# Altium footprint library Inductors SMD.PcbLib: 67 footprints (part 2 of 5)
Each footprint in its own frame and in the unit in brackets; x right, y up, seen from the top. Pads: shape width x height; smd on the part's side, far side on the other; paste and mask are expansions set on the pad; w line width, h text height; cw(c..) or ccw(c..) is an arc to the next point about the centre after c.
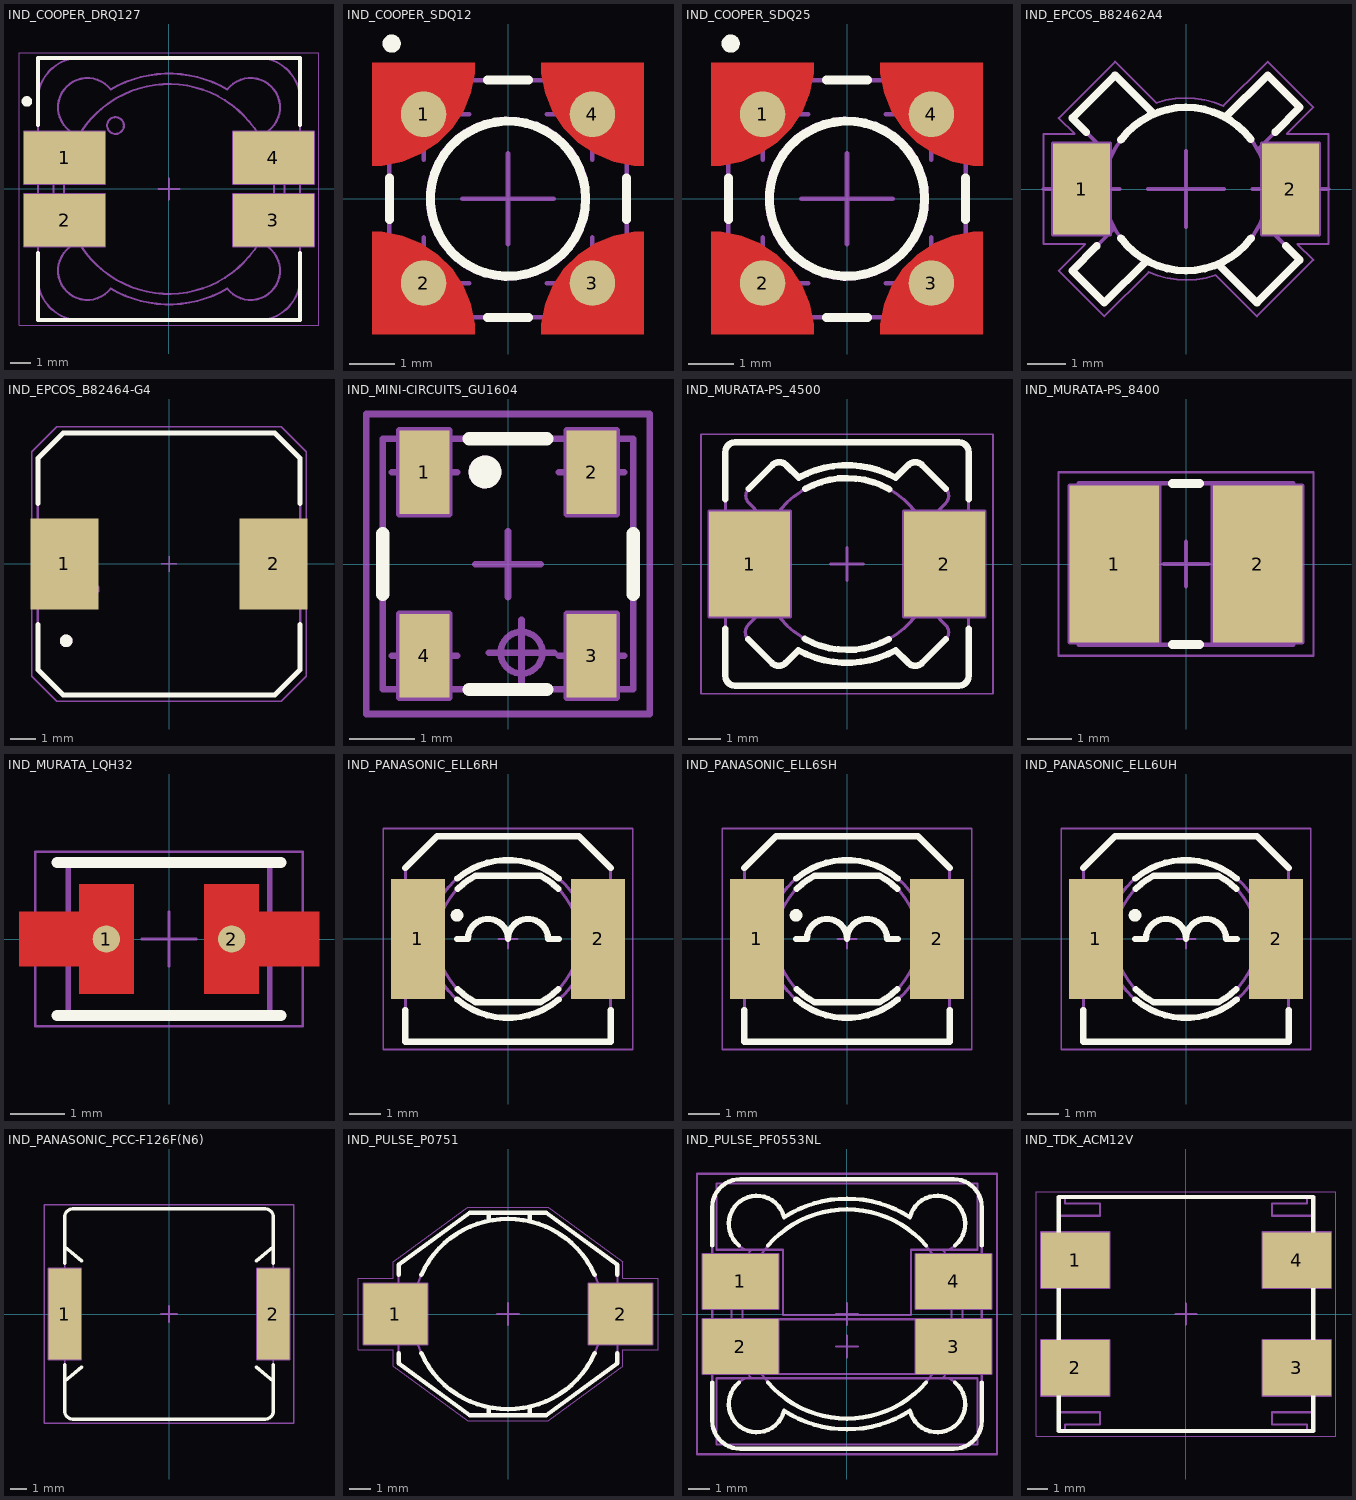
[diagram p1: the footprints below, top view; thin cyan lines are the x and y axes]

## IND_COOPER_DRQ127 [mm] "Dual Winding Shielded Inductor/Transformer DRQ Serie"
height 8
pads (4):
  rect 3.85x2.5 smd: 1(-4.975,1.5) 2(-4.975,-1.5) 3(4.975,-1.5) 4(4.975,1.5)
Top Overlay:
  circle w0.25: c-6.775,4.175 r0.125
  lines w0.2: -6.25,-3.05 -6.25,-6.25 6.25,-6.25 6.25,-3.05 ; -6.25,3.05 -6.25,6.25 6.25,6.25 6.25,3.05
Mechanical 8:
  lines w0.1: -5.475,-1.5 -4.975,-1.5 ; -5.475,1.5 -4.975,1.5 ; -4.975,-2 -4.975,-1.5 ; -4.975,-1 -4.975,-1.5 ; -4.975,1 -4.975,1.5 ; -4.975,2 -4.975,1.5 ; -4.475,-1.5 -4.975,-1.5 ; -4.475,1.5 -4.975,1.5 ; -0.5,0 0,0 ; 0,-0.5 0,0 ; 0,0.5 0,0 ; 0.5,0 0,0 ; 4.475,1.5 4.975,1.5 ; 4.975,1 4.975,1.5 ; 4.975,2 4.975,1.5 ; 5.475,1.5 4.975,1.5 ; -6.9,-2.75 -6.9,-0.25 -3.05,-0.25 -3.05,-2.75 -6.9,-2.75 ; -6.9,0.25 -6.9,2.75 -3.05,2.75 -3.05,0.25 -6.9,0.25 ; 3.05,-2.75 3.05,-0.25 6.9,-0.25 6.9,-2.75 3.05,-2.75 ; 3.05,0.25 3.05,2.75 6.9,2.75 6.9,0.25 3.05,0.25
Mechanical 14:
  circle w0.1: c-2.55,3.025 r0.4
  circle w0.1: c0,0 r5
  lines w0.1: -4.25,6.25 ccw(c-4.25,4.25) -6.25,4.25 -6.25,-4.25 ccw(c-4.25,-4.25) -4.25,-6.25 4.25,-6.25 ccw(c4.25,-4.25) 6.25,-4.25 6.25,4.25 ccw(c4.25,4.25) 4.25,6.25 ; -4.25,6.25 4.25,6.25 ; -4.25,6.25 4.25,6.25 ; -4.745,-2.781 cw(c0,0) -4.745,2.781 cw(c-3.889,3.889) -2.781,4.745 cw(c0,0) 2.781,4.745 cw(c3.889,3.889) 4.745,2.781 cw(c0,0) 4.745,-2.781 cw(c3.889,-3.889) 2.781,-4.745 cw(c0,0) -2.781,-4.745 cw(c-3.889,-3.889) -4.745,-2.781
Mechanical 15:
  lines w0.05: -7.15,-6.5 -7.15,6.5 7.15,6.5 7.15,-6.5 -7.15,-6.5
3D body "IND_COOPER_DRQ127.stp": height 8, standoff 0, extent -6.25,-6.25 6.25,6.25

## IND_COOPER_SDQ12 [mm] "Low-Profile Dual Winding Shielded Inductor/Transformer SDQ Serie"
height 1.2
pads (4):
  round 1 smd: 1(-1.85,1.85) 2(-1.85,-1.85) 3(1.85,-1.85) 4(1.85,1.85)
Top Layer:
  region: -2.975,2.975 -2.975,0.725 -2.753,0.725 -2.319,0.811 -1.909,0.981 -1.541,1.227 -1.227,1.541 -0.981,1.909 -0.811,2.319 -0.725,2.753 -0.725,2.975
  region: 2.975,-2.975 2.975,-0.725 2.753,-0.725 2.319,-0.811 1.909,-0.981 1.541,-1.227 1.227,-1.541 0.981,-1.909 0.811,-2.319 0.725,-2.753 0.725,-2.975
  region: 2.975,2.975 0.725,2.975 0.725,2.753 0.811,2.319 0.981,1.909 1.227,1.541 1.541,1.227 1.909,0.981 2.319,0.811 2.753,0.725 2.975,0.725
  region: -2.975,-2.975 -0.725,-2.975 -0.725,-2.753 -0.811,-2.319 -0.981,-1.909 -1.227,-1.541 -1.541,-1.227 -1.909,-0.981 -2.319,-0.811 -2.753,-0.725 -2.975,-0.725
Top Overlay:
  circle w0.2: c-2.55,3.4 r0.1
  circle w0.2: c0,0 r1.7
  lines w0.2: -2.6,-0.453 -2.6,0.453 ; -0.453,-2.6 0.453,-2.6 ; -0.453,2.6 0.453,2.6 ; 2.6,-0.453 2.6,0.453
Top Paste:
  region: 2.975,-2.975 2.975,-0.725 2.753,-0.725 2.319,-0.811 1.909,-0.981 1.541,-1.227 1.227,-1.541 0.981,-1.909 0.811,-2.319 0.725,-2.753 0.725,-2.975
  region: -2.975,-2.975 -0.725,-2.975 -0.725,-2.753 -0.811,-2.319 -0.981,-1.909 -1.227,-1.541 -1.541,-1.227 -1.909,-0.981 -2.319,-0.811 -2.753,-0.725 -2.975,-0.725
  region: 2.975,2.975 0.725,2.975 0.725,2.753 0.811,2.319 0.981,1.909 1.227,1.541 1.541,1.227 1.909,0.981 2.319,0.811 2.753,0.725 2.975,0.725
  region: -2.975,2.975 -2.975,0.725 -2.753,0.725 -2.319,0.811 -1.909,0.981 -1.541,1.227 -1.227,1.541 -0.981,1.909 -0.811,2.319 -0.725,2.753 -0.725,2.975
Top Solder:
  region: -0.627,3.075 -0.617,2.831 -0.697,2.35 -0.874,1.895 -1.141,1.486 -1.486,1.141 -1.895,0.874 -2.35,0.697 -2.831,0.617 -3.075,0.627 -3.075,3.075
  region: -3.075,-0.627 -2.831,-0.617 -2.35,-0.697 -1.895,-0.874 -1.486,-1.141 -1.141,-1.486 -0.874,-1.895 -0.697,-2.35 -0.617,-2.831 -0.627,-3.075 -3.075,-3.075
  region: 3.075,0.627 2.831,0.617 2.35,0.697 1.895,0.874 1.486,1.141 1.141,1.486 0.874,1.895 0.697,2.35 0.617,2.831 0.627,3.075 3.075,3.075
  region: 0.627,-3.075 0.617,-2.831 0.697,-2.35 0.874,-1.895 1.141,-1.486 1.486,-1.141 1.895,-0.874 2.35,-0.697 2.831,-0.617 3.075,-0.627 3.075,-3.075
Mechanical 8:
  lines w0.1: -2.85,-1.85 -1.85,-1.85 ; -2.85,1.85 -1.85,1.85 ; -1.85,-2.85 -1.85,-1.85 ; -1.85,-0.85 -1.85,-1.85 ; -1.85,0.85 -1.85,1.85 ; -1.85,2.85 -1.85,1.85 ; -1,0 0,0 ; -0.85,-1.85 -1.85,-1.85 ; -0.85,1.85 -1.85,1.85 ; 0,-1 0,0 ; 0,1 0,0 ; 0.85,-1.85 1.85,-1.85 ; 0.85,1.85 1.85,1.85 ; 1,0 0,0 ; 1.85,-2.85 1.85,-1.85 ; 1.85,-0.85 1.85,-1.85 ; 1.85,0.85 1.85,1.85 ; 1.85,2.85 1.85,1.85 ; 2.85,-1.85 1.85,-1.85 ; 2.85,1.85 1.85,1.85
Mechanical 14:
  circle w0.1: c-2.55,3.4 r0.1
  circle w0.1: c0,0 r1.75
  lines w0.1: -2.6,-2.6 2.6,-2.6 2.6,2.6 -2.6,2.6 -2.6,-2.6
3D body "IND_COOPER_SDQ12.stp": height 1.2, standoff 0, extent -2.6,-2.6 2.6,2.6

## IND_COOPER_SDQ25 [mm] "Low-Profile Dual Winding Shielded Inductor/Transformer SDQ Serie"
height 2.5
pads (4):
  round 1 smd: 1(-1.85,1.85) 2(-1.85,-1.85) 3(1.85,-1.85) 4(1.85,1.85)
Top Layer:
  region: -2.975,-2.975 -0.725,-2.975 -0.725,-2.753 -0.811,-2.319 -0.981,-1.909 -1.227,-1.541 -1.541,-1.227 -1.909,-0.981 -2.319,-0.811 -2.753,-0.725 -2.975,-0.725
  region: 2.975,2.975 0.725,2.975 0.725,2.753 0.811,2.319 0.981,1.909 1.227,1.541 1.541,1.227 1.909,0.981 2.319,0.811 2.753,0.725 2.975,0.725
  region: 2.975,-2.975 2.975,-0.725 2.753,-0.725 2.319,-0.811 1.909,-0.981 1.541,-1.227 1.227,-1.541 0.981,-1.909 0.811,-2.319 0.725,-2.753 0.725,-2.975
  region: -2.975,2.975 -2.975,0.725 -2.753,0.725 -2.319,0.811 -1.909,0.981 -1.541,1.227 -1.227,1.541 -0.981,1.909 -0.811,2.319 -0.725,2.753 -0.725,2.975
Top Overlay:
  circle w0.2: c0,0 r1.7
  circle w0.2: c-2.55,3.4 r0.1
  lines w0.2: -2.6,-0.453 -2.6,0.453 ; -0.453,-2.6 0.453,-2.6 ; -0.453,2.6 0.453,2.6 ; 2.6,-0.453 2.6,0.453
Top Paste:
  region: -2.975,2.975 -2.975,0.725 -2.753,0.725 -2.319,0.811 -1.909,0.981 -1.541,1.227 -1.227,1.541 -0.981,1.909 -0.811,2.319 -0.725,2.753 -0.725,2.975
  region: 2.975,2.975 0.725,2.975 0.725,2.753 0.811,2.319 0.981,1.909 1.227,1.541 1.541,1.227 1.909,0.981 2.319,0.811 2.753,0.725 2.975,0.725
  region: -2.975,-2.975 -0.725,-2.975 -0.725,-2.753 -0.811,-2.319 -0.981,-1.909 -1.227,-1.541 -1.541,-1.227 -1.909,-0.981 -2.319,-0.811 -2.753,-0.725 -2.975,-0.725
  region: 2.975,-2.975 2.975,-0.725 2.753,-0.725 2.319,-0.811 1.909,-0.981 1.541,-1.227 1.227,-1.541 0.981,-1.909 0.811,-2.319 0.725,-2.753 0.725,-2.975
Top Solder:
  region: 0.627,-3.075 0.617,-2.831 0.697,-2.35 0.874,-1.895 1.141,-1.486 1.486,-1.141 1.895,-0.874 2.35,-0.697 2.831,-0.617 3.075,-0.627 3.075,-3.075
  region: 3.075,0.627 2.831,0.617 2.35,0.697 1.895,0.874 1.486,1.141 1.141,1.486 0.874,1.895 0.697,2.35 0.617,2.831 0.627,3.075 3.075,3.075
  region: -3.075,-0.627 -2.831,-0.617 -2.35,-0.697 -1.895,-0.874 -1.486,-1.141 -1.141,-1.486 -0.874,-1.895 -0.697,-2.35 -0.617,-2.831 -0.627,-3.075 -3.075,-3.075
  region: -0.627,3.075 -0.617,2.831 -0.697,2.35 -0.874,1.895 -1.141,1.486 -1.486,1.141 -1.895,0.874 -2.35,0.697 -2.831,0.617 -3.075,0.627 -3.075,3.075
Mechanical 8:
  lines w0.1: -2.85,-1.85 -1.85,-1.85 ; -2.85,1.85 -1.85,1.85 ; -1.85,-2.85 -1.85,-1.85 ; -1.85,-0.85 -1.85,-1.85 ; -1.85,0.85 -1.85,1.85 ; -1.85,2.85 -1.85,1.85 ; -1,0 0,0 ; -0.85,-1.85 -1.85,-1.85 ; -0.85,1.85 -1.85,1.85 ; 0,-1 0,0 ; 0,1 0,0 ; 0.85,-1.85 1.85,-1.85 ; 0.85,1.85 1.85,1.85 ; 1,0 0,0 ; 1.85,-2.85 1.85,-1.85 ; 1.85,-0.85 1.85,-1.85 ; 1.85,0.85 1.85,1.85 ; 1.85,2.85 1.85,1.85 ; 2.85,-1.85 1.85,-1.85 ; 2.85,1.85 1.85,1.85
Mechanical 14:
  circle w0.1: c0,0 r1.75
  circle w0.1: c-2.55,3.4 r0.1
  lines w0.1: -2.6,-2.6 -2.6,2.6 2.6,2.6 2.6,-2.6 -2.6,-2.6
3D body "IND_COOPER_SDQ25.stp": height 2.5, standoff 0, extent -2.6,-2.6 2.6,2.6

## IND_EPCOS_B82462A4 [mm] "SMD Inductor  Body Width 6mm Body Lenght 6mm Height 3mm"
height 3
pads (2):
  rect 1.5x2.4 smd: 1(-2.75,0) 2(2.75,0)
Top Overlay:
  lines w0.2: -2.628,1.497 -3,1.869 -1.869,3 -0.845,1.977 ; -2.349,-1.501 -3,-2.151 -2.151,-3 -1.036,-1.884 ; -1.717,-1.294 ccw(c0,0) 1.717,-1.294 ; -1.717,1.294 cw(c0,0) 1.708,1.306 ; 0.845,-1.977 1.869,-3 3,-1.869 2.628,-1.497 ; 1.036,1.884 2.151,3 3,2.151 2.349,1.501
Mechanical 8:
  lines w0.1: -3.75,0 -2.75,0 ; -2.75,-1 -2.75,0 ; -2.75,1 -2.75,0 ; -1.75,0 -2.75,0 ; -1,0 0,0 ; 0,-1 0,0 ; 0,1 0,0 ; 1,0 0,0 ; 1.75,0 2.75,0 ; 2.75,-1 2.75,0 ; 2.75,1 2.75,0 ; 3.75,0 2.75,0 ; -3.5,-1.2 -2,-1.2 -2,1.2 -3.5,1.2 -3.5,-1.2 ; 2,-1.2 3.5,-1.2 3.5,1.2 2,1.2 2,-1.2
Mechanical 14:
  circle w0.1: c0,0 r2.15
  lines w0.1: -1.036,-1.884 -2.151,-3 -3,-2.151 -1.884,-1.036 -1.903,-1 -3,-1 -3,1 -2.131,1 -3,1.869 -1.869,3 -0.845,1.977 ; 0.845,-1.977 1.869,-3 3,-1.869 2.131,-1 3,-1 3,1 1.903,1 1.884,1.036 3,2.151 2.151,3 1.036,1.884
Mechanical 15:
  lines w0.05: -3.75,-1.45 -3.75,1.45 -2.935,1.45 -3.354,1.869 -1.869,3.354 -0.784,2.268 cw(c0,0) 0.986,2.188 2.151,3.354 3.354,2.151 2.652,1.45 3.75,1.45 3.75,-1.45 2.935,-1.45 3.354,-1.869 1.869,-3.354 0.784,-2.268 cw(c0,0) -0.986,-2.188 -2.151,-3.354 -3.354,-2.151 -2.652,-1.45 -3.75,-1.45
3D body "IND_EPCOS_B82462A4.stp": height 3, standoff 0, extent -3,-3 3,3

## IND_EPCOS_B82464-G4 [mm] "SMD Inductor  Body Width 10.4mm Body Lenght 10.4mm Height 4.8mm"
height 4.8
pads (2):
  rect 2.7x3.6 smd: 1(-4.15,0) 2(4.15,0)
Top Overlay:
  circle w0.25: c-4.075,-3.05 r0.125
  lines w0.2: -5.2,-2.4 -5.2,-4.2 -4.2,-5.2 4.2,-5.2 5.2,-4.2 5.2,-2.4 ; -5.2,2.4 -5.2,4.2 -4.2,5.2 4.2,5.2 5.2,4.2 5.2,2.4
Mechanical 14:
  circle w0.25: c-4.075,-3.05 r0.125
  circle w0.25: c-3,-1 r0.125
  lines w0.1: -5.2,-4.2 -4.2,-5.2 4.2,-5.2 5.2,-4.2 5.2,4.2 4.2,5.2 -4.2,5.2 -5.2,4.2 -5.2,-4.2
Mechanical 15:
  lines w0.05: -0.3,0 0.3,0 ; 0,-0.3 0,0.3 ; -5.45,-4.45 -4.45,-5.45 4.45,-5.45 5.45,-4.45 5.45,4.45 4.45,5.45 -4.45,5.45 -5.45,4.45 -5.45,-4.45
3D body "IND_EPCOS_B82464-G4.stp": height 4.9, standoff 0, extent -5.201,-5.201 5.199,5.199

## IND_MINI-CIRCUITS_GU1604 [mm] "MINI-CIRCUITS RF Choke, Case GU1041 - Body 3.81X3.81mm"
height 3.81
pads (4):
  rect 0.76x1.27 smd: 1(-1.27,1.394) 2(1.27,1.396) 3(1.27,-1.394) 4(-1.27,-1.396)
Top Overlay:
  circle w0.25: c-0.35,1.4 r0.125
  lines w0.2: -1.905,-0.459 -1.905,0.461 ; -0.59,-1.905 0.59,-1.905 ; -0.59,1.905 0.59,1.905 ; 1.905,-0.459 1.905,0.461
Mechanical 8:
  circle w0.1: c0.205,-1.347 r0.318
  lines w0.1: -1.77,-1.396 -1.27,-1.396 ; -1.77,1.394 -1.27,1.394 ; -1.27,-1.896 -1.27,-1.396 ; -1.27,-0.896 -1.27,-1.396 ; -1.27,0.894 -1.27,1.394 ; -1.27,1.894 -1.27,1.394 ; -0.77,-1.396 -1.27,-1.396 ; -0.77,1.394 -1.27,1.394 ; -0.295,-1.347 0.205,-1.347 ; 0.205,-1.847 0.205,-1.347 ; 0.205,-0.847 0.205,-1.347 ; 0.705,-1.347 0.205,-1.347 ; 0.77,-1.394 1.27,-1.394 ; 0.77,1.396 1.27,1.396 ; 1.27,-1.894 1.27,-1.394 ; 1.27,-0.894 1.27,-1.394 ; 1.27,0.896 1.27,1.396 ; 1.27,1.896 1.27,1.396 ; 1.77,-1.394 1.27,-1.394 ; 1.77,1.396 1.27,1.396 ; 0,0 0,0.5 0,0 ; 0,0 0.5,0 0,0 ; 0,0 0,-0.5 0,0 ; 0,0 -0.5,0 0,0 ; -1.65,-2.029 -1.65,-0.759 -0.89,-0.759 -0.89,-2.029 -1.65,-2.029 ; -1.65,0.761 -1.65,2.031 -0.89,2.031 -0.89,0.761 -1.65,0.761 ; 0.89,-2.029 0.89,-0.759 1.65,-0.759 1.65,-2.029 0.89,-2.029 ; 0.89,0.761 0.89,2.031 1.65,2.031 1.65,0.761 0.89,0.761
Mechanical 14:
  circle w0.1: c-0.35,1.4 r0.2
  lines w0.1: -1.905,-1.905 -1.905,1.905 1.905,1.905 1.905,-1.905 -1.905,-1.905
Mechanical 15:
  lines w0.1: -2.155,-2.279 -2.155,2.281 2.155,2.281 2.155,-2.279 -2.155,-2.279
3D body "IND_MINI-CIRCUITS_GU1604.stp": height 3.81, standoff 0, extent -1.905,-1.905 1.905,1.905

## IND_MURATA-PS_4500 [mm] "Shielded Surface Mount Power Inductors, 7.3mm L X 7.3mm W X 3.55mm H, MURATA 4500 Serie"
height 3.55
pads (2):
  rect 2.5x3.25 smd: 1(-3,0) 2(3,0)
Top Overlay:
  lines w0.2: -3.75,-2 -3.75,-3.45 ccw(c-3.45,-3.45) -3.45,-3.75 3.45,-3.75 ccw(c3.45,-3.45) 3.75,-3.45 3.75,-2 ; -3.75,2 -3.75,3.45 cw(c-3.45,3.45) -3.45,3.75 3.45,3.75 cw(c3.45,3.45) 3.75,3.45 3.75,2 ; -3.045,-2.323 -2.323,-3.045 ccw(c-2.103,-2.826) -1.883,-3.045 -1.496,-2.658 ccw(c0,0) 1.496,-2.658 1.879,-3.04 ccw(c2.104,-2.825) 2.323,-3.045 3.045,-2.323 ; -3.029,2.323 -2.307,3.045 cw(c-2.087,2.826) -1.863,3.041 -1.486,2.664 cw(c0,0) 1.496,2.658 1.883,3.045 cw(c2.103,2.826) 2.323,3.045 3.045,2.323 ; -1.3,-2.309 ccw(c0,0) 1.291,-2.314 ; -1.291,2.314 cw(c0,0) 1.3,2.309
Top Solder:
  region: 2.85,0.6 1.7,0.6 1.7,-0.6 2.85,-0.6
  rectangle: -2.85,-0.6 -1.7,0.6
Mechanical 8:
  lines w0.1: -3.5,0 -3,0 ; -3,-0.5 -3,0 ; -3,0.5 -3,0 ; -2.5,0 -3,0 ; -0.5,0 0,0 ; 0,-0.5 0,0 ; 0,0.5 0,0 ; 0.5,0 0,0 ; 2.5,0 3,0 ; 3,-0.5 3,0 ; 3,0.5 3,0 ; 3.5,0 3,0 ; -4.25,-1.625 -1.75,-1.625 -1.75,1.625 -4.25,1.625 -4.25,-1.625 ; 1.75,-1.625 1.75,1.625 4.25,1.625 4.25,-1.625 1.75,-1.625
Mechanical 14:
  circle w0.1: c0,0 r2.65
  lines w0.1: -1.5,3.75 1.5,3.75 ; -3.75,-3.45 ccw(c-3.45,-3.45) -3.45,-3.75 3.45,-3.75 ccw(c3.45,-3.45) 3.75,-3.45 3.75,3.45 ccw(c3.45,3.45) 3.45,3.75 -3.45,3.75 ccw(c-3.45,3.45) -3.75,3.45 -3.75,-3.45 ; -3.045,-2.323 cw(c-2.825,-2.104) -3.04,-1.879 -2.658,-1.496 cw(c0,0) -2.652,1.506 -3.029,1.884 cw(c-2.809,2.103) -3.029,2.323 -2.307,3.045 cw(c-2.087,2.826) -1.863,3.041 -1.486,2.664 cw(c0,0) 1.496,2.658 1.883,3.045 cw(c2.103,2.826) 2.323,3.045 3.045,2.323 cw(c2.825,2.104) 3.04,1.879 2.658,1.496 cw(c0,0) 2.658,-1.496 3.045,-1.883 cw(c2.826,-2.103) 3.045,-2.323 2.323,-3.045 cw(c2.104,-2.825) 1.879,-3.04 1.496,-2.658 cw(c0,0) -1.496,-2.658 -1.883,-3.045 cw(c-2.103,-2.826) -2.323,-3.045 -3.045,-2.323
Mechanical 15:
  lines w0.05: -4.5,-4 4.5,-4 4.5,4 -4.5,4 -4.5,-4
3D body "IND_MURATA-PS_4500.stp": height 3.55, standoff 0, extent -3.75,-3.75 3.75,3.75

## IND_MURATA-PS_8400 [mm] "Miniature Surface Mount Power Inductors, 4.5mm L X 3.3mm W X 2.9mm H, MURATA 8400 Serie"
height 2.9
pads (2):
  rect 2x3.5 smd: 1(-1.6,0) 2(1.6,0)
Top Overlay:
  lines w0.2: -0.3,-1.8 0.3,-1.8 ; -0.3,1.8 0.3,1.8
Mechanical 8:
  lines w0.1: -2.1,0 -1.6,0 ; -1.6,-0.5 -1.6,0 ; -1.6,0.5 -1.6,0 ; -1.1,0 -1.6,0 ; -0.5,0 0,0 ; 0,-0.5 0,0 ; 0,0.5 0,0 ; 0.5,0 0,0 ; 1.1,0 1.6,0 ; 1.6,-0.5 1.6,0 ; 1.6,0.5 1.6,0 ; 2.1,0 1.6,0 ; -2.6,-1.75 -2.6,1.75 -0.6,1.75 -0.6,-1.75 -2.6,-1.75 ; 0.6,-1.75 0.6,1.75 2.6,1.75 2.6,-1.75 0.6,-1.75
Mechanical 14:
  lines w0.1: -1.8,-1.8 -1.8,1.8 ; 1.8,-1.8 1.8,1.8 ; -2.4,-1.8 2.4,-1.8 2.4,1.8 -2.4,1.8 -2.4,-1.8
Mechanical 15:
  lines w0.05: -2.85,-2.05 -2.85,2.05 2.85,2.05 2.85,-2.05 -2.85,-2.05
3D body "IND_MURATA-PS_8400.stp": height 2.9, standoff 0, extent -2.4,-1.8 2.4,1.8

## IND_MURATA_LQH32 [mm] "Chip Inductor, 3.40mm L X 2.50mm W X 2.20mm H, MURATA LQH32 Serie"
height 2.2
pads (2):
  round 0.5 smd paste-0.26 mask-0.26: 1(-1.15,0) 2(1.15,0)
Top Layer:
  region: -2.75,-0.5 -1.65,-0.5 -1.65,-1 -0.65,-1 -0.65,1 -1.65,1 -1.65,0.5 -2.75,0.5
  region: 2.75,0.5 1.65,0.5 1.65,1 0.65,1 0.65,-1 1.65,-1 1.65,-0.5 2.75,-0.5
Top Overlay:
  lines w0.2: -2.05,-1.4 2.05,-1.4 ; -2.05,1.4 2.05,1.4
Mechanical 14:
  lines w0.1: -1.85,-1.35 1.85,-1.35 1.85,1.35 -1.85,1.35 -1.85,-1.35
Mechanical 15:
  lines w0.05: -0.5,0 0.5,0 ; 0,-0.5 0,0.5 ; -2.45,-1.6 2.45,-1.6 2.45,1.6 -2.45,1.6 -2.45,-1.6
3D body "IND_MURATA_LQH32.stp": height 2.2, standoff 0, extent -1.75,-1.25 1.75,1.25

## IND_PANASONIC_ELL6RH [mm] "SMD Choke Coil, Body 6.9x6.5mm"
height 2.8
pads (2):
  rect 1.7x3.8 smd: 1(-2.85,0) 2(2.85,0)
Top Overlay:
  circle w0.2: c-1.615,0.75 r0.1
  lines w0.2: -3.25,-2.25 -3.25,-3.25 3.25,-3.25 3.25,-2.25 ; -3.25,2.25 -2.25,3.25 2.25,3.25 3.25,2.25 ; -1.615,0 -1.27,0 cw(c-0.635,0) 0,0 cw(c0.635,0) 1.27,0 1.615,0 ; -1.607,-1.915 ccw(c0,0) 1.607,-1.915 ; -1.607,1.915 cw(c0,0) 1.607,1.915 ; -1.591,-1.591 ccw(c0,0) -1.031,-2 1.031,-2 ccw(c0,0) 1.591,-1.591 ; -1.591,1.591 cw(c0,0) -1.031,2 1.031,2 cw(c0,0) 1.591,1.591
Mechanical 14:
  circle w0.1: c0,0 r2.5
  lines w0.1: -3.25,-1.65 -3.45,-1.65 -3.45,1.65 -3.25,1.65 ; 3.25,-1.65 3.45,-1.65 3.45,1.65 3.25,1.65 ; -3.25,-3.25 -3.25,2.25 -2.25,3.25 2.25,3.25 3.25,2.25 3.25,-3.25 -3.25,-3.25 ; -1.031,-2 cw(c0,0) -1.031,2 1.031,2 cw(c0,0) 1.031,-2 -1.031,-2
Mechanical 15:
  lines w0.05: -0.3,0 0.3,0 ; 0,-0.3 0,0.3 ; -3.95,-3.5 -3.95,3.5 3.95,3.5 3.95,-3.5 -3.95,-3.5
3D body "IND_PANASONIC_ELL6RH.stp": height 2.8, standoff 0, extent -3.45,-3.25 3.45,3.25

## IND_PANASONIC_ELL6SH [mm] "SMD Choke Coil, Body 6.9x6.5mm"
height 3.3
pads (2):
  rect 1.7x3.8 smd: 1(-2.85,0) 2(2.85,0)
Top Overlay:
  circle w0.2: c-1.615,0.75 r0.1
  lines w0.2: -3.25,-2.25 -3.25,-3.25 3.25,-3.25 3.25,-2.25 ; -3.25,2.25 -2.25,3.25 2.25,3.25 3.25,2.25 ; -1.615,0 -1.27,0 cw(c-0.635,0) 0,0 cw(c0.635,0) 1.27,0 1.615,0 ; -1.607,-1.915 ccw(c0,0) 1.607,-1.915 ; -1.607,1.915 cw(c0,0) 1.607,1.915 ; -1.591,-1.591 ccw(c0,0) -1.031,-2 1.031,-2 ccw(c0,0) 1.591,-1.591 ; -1.591,1.591 cw(c0,0) -1.031,2 1.031,2 cw(c0,0) 1.591,1.591
Mechanical 14:
  circle w0.1: c0,0 r2.5
  lines w0.1: -3.25,-1.65 -3.45,-1.65 -3.45,1.65 -3.25,1.65 ; 3.25,-1.65 3.45,-1.65 3.45,1.65 3.25,1.65 ; -3.25,-3.25 -3.25,2.25 -2.25,3.25 2.25,3.25 3.25,2.25 3.25,-3.25 -3.25,-3.25 ; -1.031,-2 cw(c0,0) -1.031,2 1.031,2 cw(c0,0) 1.031,-2 -1.031,-2
Mechanical 15:
  lines w0.05: -0.3,0 0.3,0 ; 0,-0.3 0,0.3 ; -3.95,-3.5 -3.95,3.5 3.95,3.5 3.95,-3.5 -3.95,-3.5
3D body "IND_PANASONIC_ELL6SH.stp": height 3.3, standoff 0, extent -3.45,-3.25 3.45,3.25

## IND_PANASONIC_ELL6UH [mm] "SMD Choke Coil, Body 6.9x6.5mm"
height 5
pads (2):
  rect 1.7x3.8 smd: 1(-2.85,0) 2(2.85,0)
Top Overlay:
  circle w0.2: c-1.615,0.75 r0.1
  lines w0.2: -3.25,-2.25 -3.25,-3.25 3.25,-3.25 3.25,-2.25 ; -3.25,2.25 -2.25,3.25 2.25,3.25 3.25,2.25 ; -1.615,0 -1.27,0 cw(c-0.635,0) 0,0 cw(c0.635,0) 1.27,0 1.615,0 ; -1.607,-1.915 ccw(c0,0) 1.607,-1.915 ; -1.607,1.915 cw(c0,0) 1.607,1.915 ; -1.591,-1.591 ccw(c0,0) -1.031,-2 1.031,-2 ccw(c0,0) 1.591,-1.591 ; -1.591,1.591 cw(c0,0) -1.031,2 1.031,2 cw(c0,0) 1.591,1.591
Mechanical 14:
  circle w0.1: c0,0 r2.5
  lines w0.1: -3.25,-1.65 -3.45,-1.65 -3.45,1.65 -3.25,1.65 ; 3.25,-1.65 3.45,-1.65 3.45,1.65 3.25,1.65 ; -3.25,-3.25 3.25,-3.25 3.25,2.25 2.25,3.25 -2.25,3.25 -3.25,2.25 -3.25,-3.25 ; -1.031,-2 cw(c0,0) -1.031,2 1.031,2 cw(c0,0) 1.031,-2 -1.031,-2
Mechanical 15:
  lines w0.05: -0.3,0 0.3,0 ; 0,-0.3 0,0.3 ; -3.95,-3.5 3.95,-3.5 3.95,3.5 -3.95,3.5 -3.95,-3.5
3D body "IND_PANASONIC_ELL6UH.stp": height 5, standoff 0, extent -3.45,-3.25 3.45,3.25

## IND_PANASONIC_PCC-F126F(N6) [mm] "SMD Inductor  Body Width 12.5mm Body Lenght 12.5mm Height 5.7mm, PANASONIC PCC-F126(N6) Serie"
height 5.7
pads (2):
  rect 2x5.6 smd: 1(-6.4,0) 2(6.4,0)
Top Overlay:
  lines w0.2: -6.4,-4.125 -5.35,-3.25 ; -6.4,-3.1 -6.4,-5.95 ccw(c-5.9,-5.95) -5.9,-6.45 5.9,-6.45 ccw(c5.9,-5.95) 6.4,-5.95 6.4,-3.1 ; -6.4,3.1 -6.4,5.95 cw(c-5.9,5.95) -5.9,6.45 5.9,6.45 cw(c5.9,5.95) 6.4,5.95 6.4,3.1 ; -6.4,4.125 -5.35,3.25 ; 5.35,-3.25 6.4,-4.125 ; 5.35,3.25 6.4,4.125
Mechanical 8:
  lines w0.1: -6.9,0 -6.4,0 ; -6.4,-0.5 -6.4,0 ; -6.4,0.5 -6.4,0 ; -5.9,0 -6.4,0 ; -0.5,0 0,0 ; 0,-0.5 0,0 ; 0,0.5 0,0 ; 0.5,0 0,0 ; 5.9,0 6.4,0 ; 6.4,-0.5 6.4,0 ; 6.4,0.5 6.4,0 ; 6.9,0 6.4,0 ; -7.4,-2.8 -5.4,-2.8 -5.4,2.8 -7.4,2.8 -7.4,-2.8 ; 5.4,-2.8 7.4,-2.8 7.4,2.8 5.4,2.8 5.4,-2.8
Mechanical 14:
  lines w0.1: -6.4,-5.95 ccw(c-5.9,-5.95) -5.9,-6.45 5.9,-6.45 ccw(c5.9,-5.95) 6.4,-5.95 6.4,5.95 ccw(c5.9,5.95) 5.9,6.45 -5.9,6.45 ccw(c-5.9,5.95) -6.4,5.95 -6.4,-5.95
Mechanical 15:
  lines w0.1: -7.65,-6.7 -7.65,6.7 7.65,6.7 7.65,-6.7 -7.65,-6.7
3D body "IND_PANASONIC_PCC-F126F(N6).stp": height 5.7, standoff -0.3, extent -6.25,-6.25 6.25,6.25

## IND_PULSE_P0751 [mm] "SMD Power Inductor, Body Width 9.4mm Body Lenght 12.95mm Height 5.46mm, PULSE P0751/52NL Serie"
height 5.46
pads (2):
  rect 2.92x2.79 smd: 1(-5.145,0) 2(5.145,0)
Top Overlay:
  lines w0.2: -5,-1.795 -5,-2.25 -1.75,-4.625 1.75,-4.625 5,-2.25 5,-1.795 ; -5,1.795 -5,2.25 -1.75,4.625 1.75,4.625 5,2.25 5,1.795 ; -3.962,-1.795 ccw(c0,0) 3.962,-1.795 ; -3.962,1.795 cw(c0,0) 3.962,1.795 ; -0.886,-4.625 -0.886,-4.259 ; -0.886,4.259 -0.886,4.625 ; 0.999,-4.625 0.999,-4.234 ; 0.999,4.234 0.999,4.625
Mechanical 8:
  lines w0.1: -5.645,0 -5.145,0 ; -5.145,-0.5 -5.145,0 ; -5.145,0.5 -5.145,0 ; -4.645,0 -5.145,0 ; -0.5,0 0,0 ; 0,-0.5 0,0 ; 0,0.5 0,0 ; 0.5,0 0,0 ; 4.645,0 5.145,0 ; 5.145,-0.5 5.145,0 ; 5.145,0.5 5.145,0 ; 5.645,0 5.145,0 ; -6.605,-1.395 -3.685,-1.395 -3.685,1.395 -6.605,1.395 -6.605,-1.395 ; 3.685,-1.395 6.605,-1.395 6.605,1.395 3.685,1.395 3.685,-1.395
Mechanical 14:
  circle w0.1: c0,0 r4.35
  lines w0.1: -0.886,-4.625 -0.886,-4.259 ; -0.886,4.259 -0.886,4.625 ; 0.999,-4.625 0.999,-4.234 ; 0.999,4.234 0.999,4.625 ; -6.3,-1.25 -6.3,1.25 -5,1.25 -5,2.25 -1.75,4.625 1.75,4.625 5,2.25 5,1.25 6.3,1.25 6.3,-1.25 5,-1.25 5,-2.25 1.75,-4.625 -1.75,-4.625 -5,-2.25 -5,-1.25 -6.3,-1.25
Mechanical 15:
  lines w0.05: -6.855,-1.645 -5.25,-1.645 -5.25,-2.377 -1.832,-4.875 1.832,-4.875 5.25,-2.377 5.25,-1.645 6.855,-1.645 6.855,1.645 5.25,1.645 5.25,2.377 1.832,4.875 -1.832,4.875 -5.25,2.377 -5.25,1.645 -6.855,1.645 -6.855,-1.645
3D body "IND_PULSE_P0751.stp": height 4.75, standoff 0, extent -6.3,-4.625 6.3,4.625

## IND_PULSE_PF0553NL [mm] "SMD Power Inductor, Body Width 12.5mm Body Lenght 12.5mm Height 8mm, PULSE PF0553NL Serie"
height 8
pads (4):
  rect 3.53x2.54 smd: 1(-4.94,1.51) 2(-4.94,-1.51) 3(4.94,-1.51) 4(4.94,1.51)
Top Overlay:
  lines w0.2: -6.25,-3.18 -6.25,-4.95 ccw(c-4.95,-4.95) -4.95,-6.25 4.95,-6.25 ccw(c4.95,-4.95) 6.25,-4.95 6.25,-3.18 ; -6.25,3.18 -6.25,4.95 cw(c-4.95,4.95) -4.95,6.25 4.95,6.25 cw(c4.95,4.95) 6.25,4.95 6.25,3.18 ; -5.01,-3.18 ccw(c-4.182,-4.183) -2.918,-4.484 ccw(c0,0) 2.918,-4.484 ccw(c4.183,-4.183) 5.01,-3.18 ; -5.01,3.18 cw(c-4.182,4.183) -2.918,4.484 cw(c0,0) 2.918,4.484 cw(c4.183,4.183) 5.01,3.18 ; -3.662,-3.18 ccw(c0,0) 3.662,-3.18 ; -3.662,3.18 cw(c0,0) 3.662,3.18
Mechanical 8:
  lines w0.1: -5.44,-1.51 -4.94,-1.51 ; -5.44,1.51 -4.94,1.51 ; -4.94,-2.01 -4.94,-1.51 ; -4.94,-1.01 -4.94,-1.51 ; -4.94,1.01 -4.94,1.51 ; -4.94,2.01 -4.94,1.51 ; -4.44,-1.51 -4.94,-1.51 ; -4.44,1.51 -4.94,1.51 ; -0.5,-1.51 0,-1.51 ; -0.5,0 0,0 ; 0,-2.01 0,-1.51 ; 0,-1.01 0,-1.51 ; 0,-0.5 0,0 ; 0,0.5 0,0 ; 0.5,-1.51 0,-1.51 ; 0.5,0 0,0 ; 4.44,-1.51 4.94,-1.51 ; 4.44,1.51 4.94,1.51 ; 4.94,-2.01 4.94,-1.51 ; 4.94,-1.01 4.94,-1.51 ; 4.94,1.01 4.94,1.51 ; 4.94,2.01 4.94,1.51 ; 5.44,-1.51 4.94,-1.51 ; 5.44,1.51 4.94,1.51 ; -3.175,-2.78 -6.705,-2.78 -6.705,-0.24 -3.175,-0.24 ; -3.175,-2.78 -3.175,-0.24 ; -3.175,-2.78 3.175,-2.78 ; -3.175,-0.24 3.175,-0.24 ; 3.175,-2.78 6.705,-2.78 6.705,-0.24 3.175,-0.24 ; 3.175,-2.78 3.175,-0.24 ; -6.705,0.24 -3.175,0.24 -3.175,2.78 -6.705,2.78 -6.705,0.24 ; -6.05,-6.05 6.05,-6.05 6.05,-2.98 -6.05,-2.98 -6.05,-6.05 ; -6.05,2.98 -2.975,2.98 -2.975,-0.04 2.975,-0.04 2.975,2.98 6.05,2.98 6.05,6.05 -6.05,6.05 -6.05,2.98 ; 3.175,0.24 6.705,0.24 6.705,2.78 3.175,2.78 3.175,0.24
Mechanical 14:
  circle w0.1: c0,0 r4.85
  lines w0.1: -6.25,-4.95 ccw(c-4.95,-4.95) -4.95,-6.25 4.95,-6.25 ccw(c4.95,-4.95) 6.25,-4.95 6.25,4.95 ccw(c4.95,4.95) 4.95,6.25 -4.95,6.25 ccw(c-4.95,4.95) -6.25,4.95 -6.25,-4.95 ; -4.484,-2.918 cw(c0,0) -4.484,2.918 cw(c-4.182,4.183) -2.918,4.484 cw(c0,0) 2.918,4.484 cw(c4.183,4.183) 4.484,2.918 cw(c0,0) 4.484,-2.918 cw(c4.183,-4.183) 2.918,-4.484 cw(c0,0) -2.918,-4.484 cw(c-4.182,-4.183) -4.484,-2.918
Mechanical 15:
  lines w0.1: -6.955,-6.5 -6.955,6.5 6.955,6.5 6.955,-6.5 -6.955,-6.5
3D body "IND_PULSE_PF0553NL.stp": height 8, standoff 0, extent -6.25,-6.315 6.25,6.315

## IND_TDK_ACM12V [mm] "Common Mode Filters For Automotive Power Line, 12mm L X 11mm W X 6mm H, TDK ACM70V Serie"
height 6
pads (4):
  rect 3.3x2.7 smd: 1(-5.35,2.6) 2(-5.35,-2.6) 3(5.35,-2.6) 4(5.35,2.6)
Top Overlay:
  lines w0.2: -6.15,-5.65 6.15,-5.65 6.15,5.65 -6.15,5.65 -6.15,-5.65
Mechanical 8:
  lines w0.1: -5.85,-2.6 -5.35,-2.6 ; -5.85,2.6 -5.35,2.6 ; -5.35,-3.1 -5.35,-2.6 ; -5.35,-2.1 -5.35,-2.6 ; -5.35,2.1 -5.35,2.6 ; -5.35,3.1 -5.35,2.6 ; -4.85,-2.6 -5.35,-2.6 ; -4.85,2.6 -5.35,2.6 ; -0.5,0 0,0 ; 0,-0.5 0,0 ; 0,0.5 0,0 ; 0.5,0 0,0 ; 4.85,-2.6 5.35,-2.6 ; 4.85,2.6 5.35,2.6 ; 5.35,-3.1 5.35,-2.6 ; 5.35,-2.1 5.35,-2.6 ; 5.35,2.1 5.35,2.6 ; 5.35,3.1 5.35,2.6 ; 5.85,-2.6 5.35,-2.6 ; 5.85,2.6 5.35,2.6 ; -7,-3.95 -3.7,-3.95 -3.7,-1.25 -7,-1.25 -7,-3.95 ; -7,1.25 -3.7,1.25 -3.7,3.95 -7,3.95 -7,1.25 ; 3.7,-3.95 7,-3.95 7,-1.25 3.7,-1.25 3.7,-3.95 ; 3.7,1.25 7,1.25 7,3.95 3.7,3.95 3.7,1.25
Mechanical 14:
  lines w0.1: -6.15,-4.75 -6.15,4.75 -4.15,4.75 -4.15,5.35 -5.85,5.35 -5.85,5.65 5.85,5.65 5.85,5.35 4.15,5.35 4.15,4.75 6.15,4.75 6.15,-4.75 4.15,-4.75 4.15,-5.35 5.85,-5.35 5.85,-5.65 -5.85,-5.65 -5.85,-5.35 -4.15,-5.35 -4.15,-4.75 -6.15,-4.75
Mechanical 15:
  lines w0.05: -7.25,-5.9 7.25,-5.9 7.25,5.9 -7.25,5.9 -7.25,-5.9
3D body "IND_TDK_ACM12V.stp": height 6, standoff 0, extent -6.15,-5.65 6.15,5.65